# Altium footprint library MS-SM_4.6MMX10.7MM.PcbLib: 1 footprints
Each footprint in its own frame and in the unit in brackets; x right, y up, seen from the top. Pads: shape width x height; smd on the part's side, far side on the other; paste and mask are expansions set on the pad; w line width, h text height; cw(c..) or ccw(c..) is an arc to the next point about the centre after c.
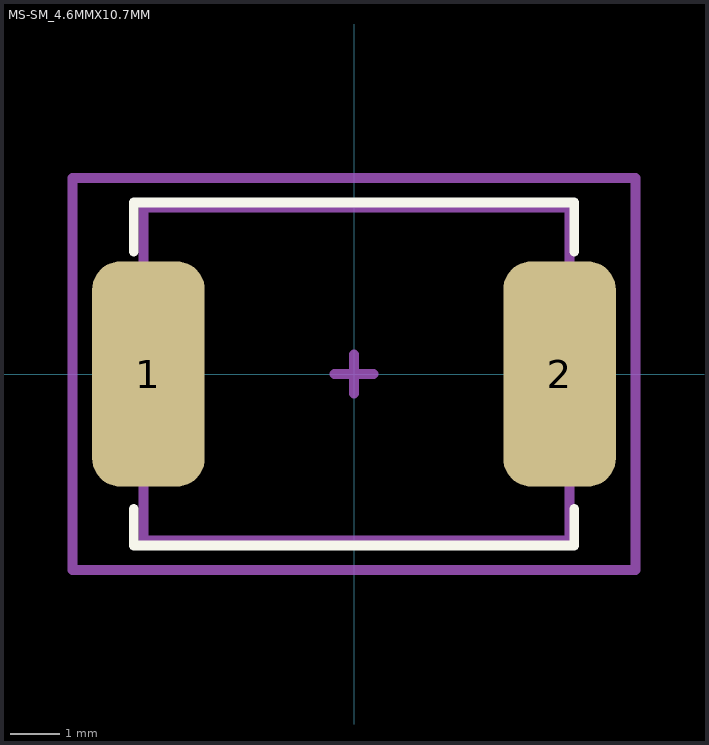
[diagram p0: the footprint, top view; thin cyan lines are the x and y axes]

## MS-SM_4.6MMX10.7MM [mm]
pads (2):
  rrect50% 2.3x4.6 smd mask+0.05: 1(-4.198,0) 2(4.198,0)
Top Overlay:
  lines w0.2: -4.5,-2.75 -4.5,-3.5 4.5,-3.5 4.5,-2.75 ; -4.5,2.5 -4.5,3.5 4.5,3.5 4.5,2.5
Top Assembly:
  lines w0.2: -4.3,-3.4 -4.3,3.4 4.4,3.4 4.4,-3.4 -4.3,-3.4
Top Courtyard:
  lines w0.2: -0.4,0 0,0 ; 0,-0.4 0,0 ; 0,0.4 0,0 ; 0.4,0 0,0 ; -5.75,-4 5.75,-4 5.75,4 -5.75,4 -5.75,0.5 -5.75,-4
3D body "mf-sm185_33.stp": height 3.04, standoff 0.04, extent -4.375,-3.355 4.375,3.355